# Altium schematic symbol library WR_TBL_8.SchLib: 1 symbol
Pins are listed as number, name and electrical type; pins without a type are passive.

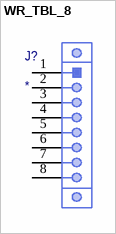
[diagram p0: symbol WR_TBL_8]

## WR_TBL_8
designator J?
pins: 1, 2, 3, 4, 5, 6, 7, 8